# EAGLE library part MOLEX_SL_23 (library molex-sl-connectors_jw)
Molex SL-Series PCB Header, 23-Pos, 0.1" (2.54mm) Centers
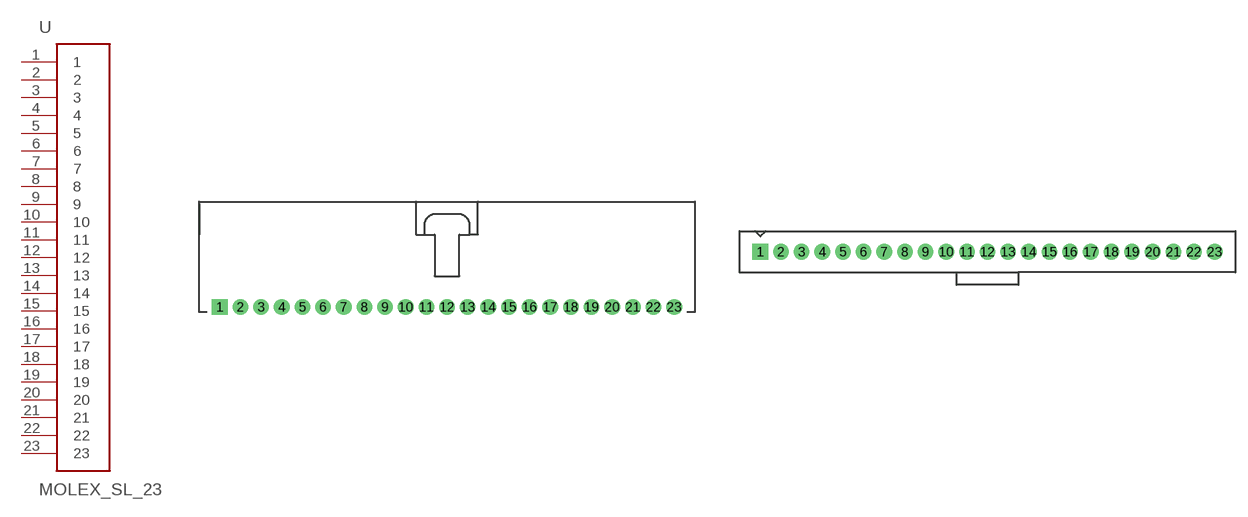
[diagram p17: symbol with the pads of SL_70553_23; footprints SL_70553_23, SL_70543_23]

Designator prefix -

## MOLEX_SL_23-70553  [SL_70553_23]
1  1
2  2
3  3
4  4
5  5
6  6
7  7
8  8
9  9
10  10
11  11
12  12
13  13
14  14
15  15
16  16
17  17
18  18
19  19
20  20
21  21
22  22
23  23

## MOLEX_SL_23-70543-74095  [SL_70543_23]
Pads as for SL_70553_23

## MOLEX_SL_23-70541-70545  [SL_70541_23]
Pads as for SL_70553_23

## MOLEX_SL_23-70551  [SL_70551_23]
Pads as for SL_70553_23

## MOLEX_SL_23-70555  [SL_70555_23]
Pads as for SL_70553_23

## MOLEX_SL_23-70634  [SL_70634_23]
Pads as for SL_70553_23

## MOLEX_SL_23-87898  [SL_87898_23]
Pads as for SL_70553_23

## Footprint SL_70553_23 (pad centres in mm)
Right-Angle Header w/ Latch (no pegs) 70553-0022 70553-0057 70553-0127 70553-0162
drill 1.1 pad 1.93 square: 1 -27.94,-5.08
drill 1.1 pad 1.93: 2 -25.4,-5.08; 3 -22.86,-5.08; 4 -20.32,-5.08; 5 -17.78,-5.08; 6 -15.24,-5.08; 7 -12.7,-5.08; 8 -10.16,-5.08; 9 -7.62,-5.08; 10 -5.08,-5.08; 11 -2.54,-5.08; 12 0,-5.08; 13 2.54,-5.08; 14 5.08,-5.08; 15 7.62,-5.08; 16 10.16,-5.08; 17 12.7,-5.08; 18 15.24,-5.08; 19 17.78,-5.08; 20 20.32,-5.08; 21 22.86,-5.08; 22 25.4,-5.08; 23 27.94,-5.08

## Footprint SL_70543_23 (pad centres in mm)
Vertical Header w/ Latch & Optional Compliant Pins (no pegs) Normal Pins: 70543-0022 70543-0057 70543-0092 70543-0127 70543-0162 70543-0186 70543-0221 70543-0269 70543-0293 70543-0317 Compliant Pins 74095-0023 74095-0053 74095-0083 74095-1053 74095-1083
drill 1.1 pad 1.93 square: 1 -27.94,1.27
drill 1.1 pad 1.93: 2 -25.4,1.27; 3 -22.86,1.27; 4 -20.32,1.27; 5 -17.78,1.27; 6 -15.24,1.27; 7 -12.7,1.27; 8 -10.16,1.27; 9 -7.62,1.27; 10 -5.08,1.27; 11 -2.54,1.27; 12 0,1.27; 13 2.54,1.27; 14 5.08,1.27; 15 7.62,1.27; 16 10.16,1.27; 17 12.7,1.27; 18 15.24,1.27; 19 17.78,1.27; 20 20.32,1.27; 21 22.86,1.27; 22 25.4,1.27; 23 27.94,1.27

## Footprint SL_70541_23 (pad centres in mm)
Vertical Header w/ Latch & Pegs With Split Pegs: 70541-0022 70541-0057 70541-0092 With Tri-Pegs: 70545-0022 70545-0057 70545-0092 70545-3022 70545-3072 70545-3122
drill 1.1 pad 1.93 square: 1 -27.94,1.27
drill 1.1 pad 1.93: 2 -25.4,1.27; 3 -22.86,1.27; 4 -20.32,1.27; 5 -17.78,1.27; 6 -15.24,1.27; 7 -12.7,1.27; 8 -10.16,1.27; 9 -7.62,1.27; 10 -5.08,1.27; 11 -2.54,1.27; 12 0,1.27; 13 2.54,1.27; 14 5.08,1.27; 15 7.62,1.27; 16 10.16,1.27; 17 12.7,1.27; 18 15.24,1.27; 19 17.78,1.27; 20 20.32,1.27; 21 22.86,1.27; 22 25.4,1.27; 23 27.94,1.27
hole 3.404 at -32.004,0.508
hole 3.404 at 32.004,0.508

## Footprint SL_70551_23 (pad centres in mm)
Right-Angle Header w/ Latch & Split Pegs 70551-0022 70551-0057 70551-0092
drill 1.1 pad 1.93 square: 1 -27.94,-5.08
drill 1.1 pad 1.93: 2 -25.4,-5.08; 3 -22.86,-5.08; 4 -20.32,-5.08; 5 -17.78,-5.08; 6 -15.24,-5.08; 7 -12.7,-5.08; 8 -10.16,-5.08; 9 -7.62,-5.08; 10 -5.08,-5.08; 11 -2.54,-5.08; 12 0,-5.08; 13 2.54,-5.08; 14 5.08,-5.08; 15 7.62,-5.08; 16 10.16,-5.08; 17 12.7,-5.08; 18 15.24,-5.08; 19 17.78,-5.08; 20 20.32,-5.08; 21 22.86,-5.08; 22 25.4,-5.08; 23 27.94,-5.08
hole 3.404 at -29.21,3.556
hole 3.404 at 29.21,3.556

## Footprint SL_70555_23 (pad centres in mm)
Right-Angle Header w/ Latch & Tri-Pegs 70555-0022 70555-0057 70555-0092 70555-5022
drill 1.1 pad 1.93 square: 1 -27.94,-5.08
drill 1.1 pad 1.93: 2 -25.4,-5.08; 3 -22.86,-5.08; 4 -20.32,-5.08; 5 -17.78,-5.08; 6 -15.24,-5.08; 7 -12.7,-5.08; 8 -10.16,-5.08; 9 -7.62,-5.08; 10 -5.08,-5.08; 11 -2.54,-5.08; 12 0,-5.08; 13 2.54,-5.08; 14 5.08,-5.08; 15 7.62,-5.08; 16 10.16,-5.08; 17 12.7,-5.08; 18 15.24,-5.08; 19 17.78,-5.08; 20 20.32,-5.08; 21 22.86,-5.08; 22 25.4,-5.08; 23 27.94,-5.08
hole 3.404 at -29.337,3.556
hole 3.404 at 29.337,3.556

## Footprint SL_70634_23 (pad centres in mm)
SMD Right-Angle Header w/ Latch & PCB Pegs 70634-0022 70634-0057 70634-0092 70634-0127 70634-0162 70634-0197 70634-0223
smd 1.651 x 5.334: 1 -27.94,-7.62; 2 -25.4,-7.62; 3 -22.86,-7.62; 4 -20.32,-7.62; 5 -17.78,-7.62; 6 -15.24,-7.62; 7 -12.7,-7.62; 8 -10.16,-7.62; 9 -7.62,-7.62; 10 -5.08,-7.62; 11 -2.54,-7.62; 12 0,-7.62; 13 2.54,-7.62; 14 5.08,-7.62; 15 7.62,-7.62; 16 10.16,-7.62; 17 12.7,-7.62; 18 15.24,-7.62; 19 17.78,-7.62; 20 20.32,-7.62; 21 22.86,-7.62; 22 25.4,-7.62; 23 27.94,-7.62
hole 3.404 at -29.362,3.048
hole 3.404 at 29.337,3.099

## Footprint SL_87898_23 (pad centres in mm)
SMD Vertical Header (no latch or pegs) Package also includes Pick-N-Place Cap Tube packaging w/o Pick-N-Place Cap: 87898-2321 87898-2322 87898-2324 87898-2325 87898-2326 Tube packaging w/ Pick-N-Place Cap: 87898-2331 87898-2332 87898-2334 87898-2335 87898-2336
smd 1.27 x 2.946: 1 -27.94,1.803; 2 -25.4,-1.803; 3 -22.86,1.803; 4 -20.32,-1.803; 5 -17.78,1.803; 6 -15.24,-1.803; 7 -12.7,1.803; 8 -10.16,-1.803; 9 -7.62,1.803; 10 -5.08,-1.803; 11 -2.54,1.803; 12 0,-1.803; 13 2.54,1.803; 14 5.08,-1.803; 15 7.62,1.803; 16 10.16,-1.803; 17 12.7,1.803; 18 15.24,-1.803; 19 17.78,1.803; 20 20.32,-1.803; 21 22.86,1.803; 22 25.4,-1.803; 23 27.94,1.803